# EAGLE library part ATMEL_DEBUG (library stepOSP)
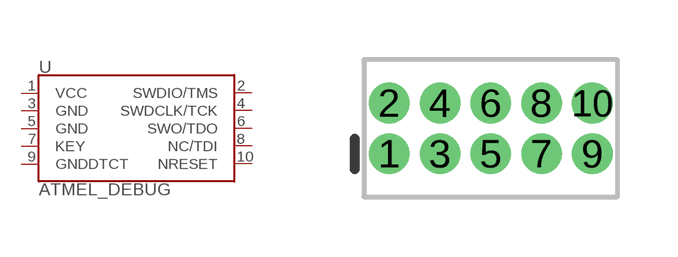
[diagram p48: symbol with the pads of 2X5_PTH_ATMEL; footprint 2X5_PTH_ATMEL]

Designator prefix -

## ATMEL_DEBUG  [2X5_PTH_ATMEL]
1  VCC
2  SWDIO/TMS
3  GND
4  SWDCLK/TCK
5  GND
6  SWO/TDO
7  KEY
8  NC/TDI
9  GNDDTCT
10  NRESET

## Footprint 2X5_PTH_ATMEL (pad centres in mm)
drill 0.508 pad 1: 1 -2.54,-0.635; 2 -2.54,0.635; 3 -1.27,-0.635; 4 -1.27,0.635; 5 0,-0.635; 6 0,0.635; 7 1.27,-0.635; 8 1.27,0.635; 9 2.54,-0.635; 10 2.54,0.635